# Altium integrated library GRM155R60J475ME47D.IntLib: 1 symbol
Pins are listed as number, name and electrical type; pins without a type are passive.

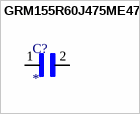
[diagram p0: symbol GRM155R60J475ME47D]

## GRM155R60J475ME47D
designator C?
4.7ÂµF Â±20% 6.3V Ceramic Capacitor X5R 0402 (1005 Metric); MF: Murata; MP: GRM155R60J475ME47D; Value: *; Price: None; Check_prices: https://www.snapeda.com/parts/GRM155R60J475ME47D/Murata%20Electronics%20North%20America/view-part/103713/?ref=eda; SnapEDA_Link: https://www.snapeda.com/parts/GRM155R60J475ME47D/Murata%20Electronics%20North%20America/view-part/103713/?ref=snap; Package: 1005 Taiyo Yuden; Availability: Not in stock
footprint CAPC1005X60N
pins: 1, 2